# Altium integrated library Micron Memory Parallel NOR Flash.IntLib: 720 symbols (part 202 of 216)
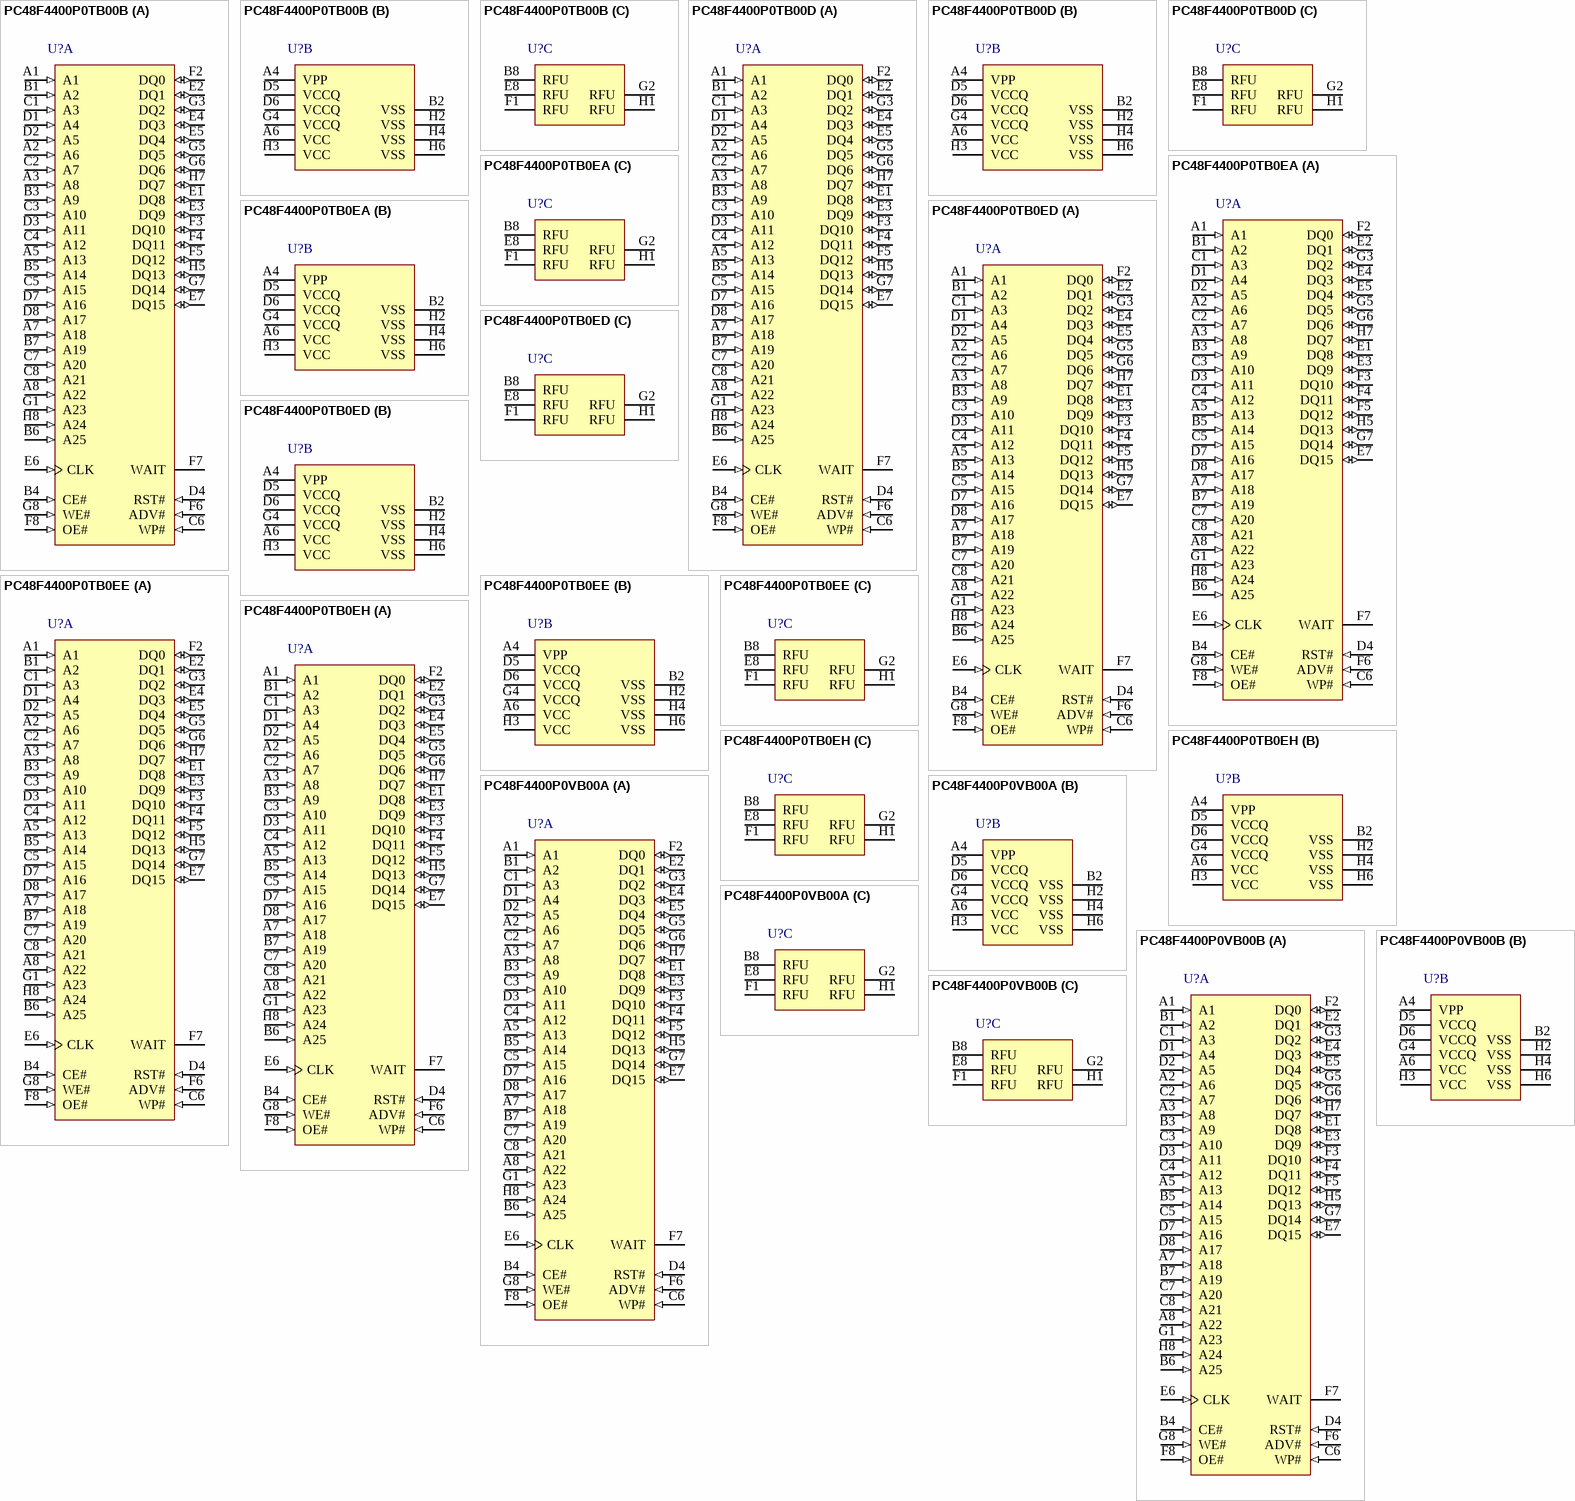
[diagram p232: symbols PC48F4400P0TB00B to PC48F4400P0VB00B]

## PC48F4400P0VB00B
designator U?
512 Mb (x16) Parallel NOR Flash Memory, 85 ns, 1.7 to 2.0 V, 64-ball Easy BGA (PC), Tape & Reel; Part Family: P30; Manufacturer: Micron; PartNumber: PC48F4400P0VB00B; Density: 512Mb; Op Temp: -40C to +85C; Speed: 85ns; Voltage: 1.7V-2.0V; DatasheetVersion: Rev.12; PackageVersion: Rev. 10; PackageReference: MICT-PC-64-13000X10000X1200DEA; PackageDescription: 64-Ball BGA, 13 x 10 mm, Pitch 1 mm; RoHS: Yes; Width: x16; Mounting Technology: Surface Mount; ComponentLink1Description: Manufacturer URL; ComponentLink1URL: http://www.micron.com/; ComponentLink2Description: Datasheet; ComponentLink2URL: http://www.micron.com/~/media/Documents/Products/Data%20Sheet/NOR%20Flash/Parallel/P33/320003_P33_65nm_MLC_256MDiscrete_512MStack_DS.pdf; ComponentLink3Description: Package Specification; ComponentLink3URL: http://www.micron.com/~/media/Documents/Products/Data%20Sheet/NOR%20Flash/Parallel/J3/316577_J3D_Monolithic_DS.pdf
footprint MICT-PC-64-13000X10000X1200DEA (BGA, 64-Balls, Body 13x10mm, Pitch 1mm)
part A pins: A1 (in) "Address Input: Device Address Input. 64-Mbit: A[22:1]; 128-Mbit: A[23:1]; 256-Mbit: A[24:1]; 512-Mbit: A[25:1]. Note: The virtual selection of the 256-Mbit "Top parameter" die in the dual-die 512-Mbit configuration is (See Datasheet)", A2 A6 (in) "Address Input: Device Address Input. 64-Mbit: A[22:1]; 128-Mbit: A[23:1]; 256-Mbit: A[24:1]; 512-Mbit: A[25:1]. Note: The virtual selection of the 256-Mbit "Top parameter" die in the dual-die 512-Mbit configuration is (See Datasheet)", A3 A8 (in) "Address Input: Device Address Input. 64-Mbit: A[22:1]; 128-Mbit: A[23:1]; 256-Mbit: A[24:1]; 512-Mbit: A[25:1]. Note: The virtual selection of the 256-Mbit "Top parameter" die in the dual-die 512-Mbit configuration is (See Datasheet)", A5 A13 (in) "Address Input: Device Address Input. 64-Mbit: A[22:1]; 128-Mbit: A[23:1]; 256-Mbit: A[24:1]; 512-Mbit: A[25:1]. Note: The virtual selection of the 256-Mbit "Top parameter" die in the dual-die 512-Mbit configuration is (See Datasheet)", A7 A18 (in) "Address Input: Device Address Input. 64-Mbit: A[22:1]; 128-Mbit: A[23:1]; 256-Mbit: A[24:1]; 512-Mbit: A[25:1]. Note: The virtual selection of the 256-Mbit "Top parameter" die in the dual-die 512-Mbit configuration is (See Datasheet)", A8 A22 (in) "Address Input: Device Address Input. 64-Mbit: A[22:1]; 128-Mbit: A[23:1]; 256-Mbit: A[24:1]; 512-Mbit: A[25:1]. Note: The virtual selection of the 256-Mbit "Top parameter" die in the dual-die 512-Mbit configuration is (See Datasheet)", B1 A2 (in) "Address Input: Device Address Input. 64-Mbit: A[22:1]; 128-Mbit: A[23:1]; 256-Mbit: A[24:1]; 512-Mbit: A[25:1]. Note: The virtual selection of the 256-Mbit "Top parameter" die in the dual-die 512-Mbit configuration is (See Datasheet)", B3 A9 (in) "Address Input: Device Address Input. 64-Mbit: A[22:1]; 128-Mbit: A[23:1]; 256-Mbit: A[24:1]; 512-Mbit: A[25:1]. Note: The virtual selection of the 256-Mbit "Top parameter" die in the dual-die 512-Mbit configuration is (See Datasheet)", B4 CE# (in) "FLASH CHIP ENABLE: Active low input. CE# low selects the associated flash memory die. When asserted, flash internal control logic, input buffers, decoders, and sense amplifiers are active. When deasserted, the associated (See Datasheet)", B5 A14 (in) "Address Input: Device Address Input. 64-Mbit: A[22:1]; 128-Mbit: A[23:1]; 256-Mbit: A[24:1]; 512-Mbit: A[25:1]. Note: The virtual selection of the 256-Mbit "Top parameter" die in the dual-die 512-Mbit configuration is (See Datasheet)", B6 A25 (in) "Address Input: Device Address Input. 64-Mbit: A[22:1]; 128-Mbit: A[23:1]; 256-Mbit: A[24:1]; 512-Mbit: A[25:1]. Note: The virtual selection of the 256-Mbit "Top parameter" die in the dual-die 512-Mbit configuration is (See Datasheet)", B7 A19 (in) "Address Input: Device Address Input. 64-Mbit: A[22:1]; 128-Mbit: A[23:1]; 256-Mbit: A[24:1]; 512-Mbit: A[25:1]. Note: The virtual selection of the 256-Mbit "Top parameter" die in the dual-die 512-Mbit configuration is (See Datasheet)", C1 A3 (in) "Address Input: Device Address Input. 64-Mbit: A[22:1]; 128-Mbit: A[23:1]; 256-Mbit: A[24:1]; 512-Mbit: A[25:1]. Note: The virtual selection of the 256-Mbit "Top parameter" die in the dual-die 512-Mbit configuration is (See Datasheet)", C2 A7 (in) "Address Input: Device Address Input. 64-Mbit: A[22:1]; 128-Mbit: A[23:1]; 256-Mbit: A[24:1]; 512-Mbit: A[25:1]. Note: The virtual selection of the 256-Mbit "Top parameter" die in the dual-die 512-Mbit configuration is (See Datasheet)", C3 A10 (in) "Address Input: Device Address Input. 64-Mbit: A[22:1]; 128-Mbit: A[23:1]; 256-Mbit: A[24:1]; 512-Mbit: A[25:1]. Note: The virtual selection of the 256-Mbit "Top parameter" die in the dual-die 512-Mbit configuration is (See Datasheet)", C4 A12 (in) "Address Input: Device Address Input. 64-Mbit: A[22:1]; 128-Mbit: A[23:1]; 256-Mbit: A[24:1]; 512-Mbit: A[25:1]. Note: The virtual selection of the 256-Mbit "Top parameter" die in the dual-die 512-Mbit configuration is (See Datasheet)", C5 A15 (in) "Address Input: Device Address Input. 64-Mbit: A[22:1]; 128-Mbit: A[23:1]; 256-Mbit: A[24:1]; 512-Mbit: A[25:1]. Note: The virtual selection of the 256-Mbit "Top parameter" die in the dual-die 512-Mbit configuration is (See Datasheet)", C6 WP# (in) "WRITE PROTECT: Active low input. WP# low enables the lock-down mechanism. Blocks in lockdown cannot be unlocked with the Unlock command. WP# high overrides the lock-down function enabling blocks to be erased or programmed (See Datasheet)", C7 A20 (in) "Address Input: Device Address Input. 64-Mbit: A[22:1]; 128-Mbit: A[23:1]; 256-Mbit: A[24:1]; 512-Mbit: A[25:1]. Note: The virtual selection of the 256-Mbit "Top parameter" die in the dual-die 512-Mbit configuration is (See Datasheet)", C8 A21 (in) "Address Input: Device Address Input. 64-Mbit: A[22:1]; 128-Mbit: A[23:1]; 256-Mbit: A[24:1]; 512-Mbit: A[25:1]. Note: The virtual selection of the 256-Mbit "Top parameter" die in the dual-die 512-Mbit configuration is (See Datasheet)", D1 A4 (in) "Address Input: Device Address Input. 64-Mbit: A[22:1]; 128-Mbit: A[23:1]; 256-Mbit: A[24:1]; 512-Mbit: A[25:1]. Note: The virtual selection of the 256-Mbit "Top parameter" die in the dual-die 512-Mbit configuration is (See Datasheet)", D2 A5 (in) "Address Input: Device Address Input. 64-Mbit: A[22:1]; 128-Mbit: A[23:1]; 256-Mbit: A[24:1]; 512-Mbit: A[25:1]. Note: The virtual selection of the 256-Mbit "Top parameter" die in the dual-die 512-Mbit configuration is (See Datasheet)", D3 A11 (in) "Address Input: Device Address Input. 64-Mbit: A[22:1]; 128-Mbit: A[23:1]; 256-Mbit: A[24:1]; 512-Mbit: A[25:1]. Note: The virtual selection of the 256-Mbit "Top parameter" die in the dual-die 512-Mbit configuration is (See Datasheet)", D4 RST# (in) "RESET: Active low input. RST# resets internal automation and inhibits write operations. This provides data protection during power transitions. RST# high enables normal operation. Exit from reset places the device in (See Datasheet)", D7 A16 (in) "Address Input: Device Address Input. 64-Mbit: A[22:1]; 128-Mbit: A[23:1]; 256-Mbit: A[24:1]; 512-Mbit: A[25:1]. Note: The virtual selection of the 256-Mbit "Top parameter" die in the dual-die 512-Mbit configuration is (See Datasheet)", D8 A17 (in) "Address Input: Device Address Input. 64-Mbit: A[22:1]; 128-Mbit: A[23:1]; 256-Mbit: A[24:1]; 512-Mbit: A[25:1]. Note: The virtual selection of the 256-Mbit "Top parameter" die in the dual-die 512-Mbit configuration is (See Datasheet)", E1 DQ8 (io) "DATA INPUT/Output: Input data and commands during write cycles; Output data during memory, Status Register, Protection Register, and Read Configuration Register reads. Data balls float when the CE# or OE# are deasserted. (See Datasheet)", E2 DQ1 (io) "DATA INPUT/Output: Input data and commands during write cycles; Output data during memory, Status Register, Protection Register, and Read Configuration Register reads. Data balls float when the CE# or OE# are deasserted. (See Datasheet)", E3 DQ9 (io) "DATA INPUT/Output: Input data and commands during write cycles; Output data during memory, Status Register, Protection Register, and Read Configuration Register reads. Data balls float when the CE# or OE# are deasserted. (See Datasheet)", E4 DQ3 (io) "DATA INPUT/Output: Input data and commands during write cycles; Output data during memory, Status Register, Protection Register, and Read Configuration Register reads. Data balls float when the CE# or OE# are deasserted. (See Datasheet)", E5 DQ4 (io) "DATA INPUT/Output: Input data and commands during write cycles; Output data during memory, Status Register, Protection Register, and Read Configuration Register reads. Data balls float when the CE# or OE# are deasserted. (See Datasheet)", E6 CLK (in) "CLOCK: Synchronizes the device with the system’s bus frequency in synchronous-read mode. During synchronous read operations, addresses are latched on the rising edge of ADV#, or on the next valid CLK edge with ADV# low, (See Datasheet)", E7 DQ15 (io) "DATA INPUT/Output: Input data and commands during write cycles; Output data during memory, Status Register, Protection Register, and Read Configuration Register reads. Data balls float when the CE# or OE# are deasserted. (See Datasheet)", F2 DQ0 (io) "DATA INPUT/Output: Input data and commands during write cycles; Output data during memory, Status Register, Protection Register, and Read Configuration Register reads. Data balls float when the CE# or OE# are deasserted. (See Datasheet)", F3 DQ10 (io) "DATA INPUT/Output: Input data and commands during write cycles; Output data during memory, Status Register, Protection Register, and Read Configuration Register reads. Data balls float when the CE# or OE# are deasserted. (See Datasheet)", F4 DQ11 (io) "DATA INPUT/Output: Input data and commands during write cycles; Output data during memory, Status Register, Protection Register, and Read Configuration Register reads. Data balls float when the CE# or OE# are deasserted. (See Datasheet)", F5 DQ12 (io) "DATA INPUT/Output: Input data and commands during write cycles; Output data during memory, Status Register, Protection Register, and Read Configuration Register reads. Data balls float when the CE# or OE# are deasserted. (See Datasheet)", F6 ADV# (in) "ADDRESS VALID: Active low input. During synchronous read operations, addresses are latched on the rising edge of ADV#, or on the next valid CLK edge with ADV# low, whichever occurs first. In asynchronous mode, the address is (See Datasheet)", F7 WAIT (hiz) "WAIT: Indicates data valid in synchronous array or non-array burst reads. Read Configuration Register bit 10 (RCR[10], WT) determines its polarity when asserted. WAIT’s active output is VOL or VOH when CE# and OE# are VIL. (See Datasheet)", F8 OE# (in) "OUTPUT ENABLE: Active low input. OE# low enables the device’s output data buffers during read cycles. OE# high places the data outputs and WAIT in High-Z.", G1 A23 (in) "Address Input: Device Address Input. 64-Mbit: A[22:1]; 128-Mbit: A[23:1]; 256-Mbit: A[24:1]; 512-Mbit: A[25:1]. Note: The virtual selection of the 256-Mbit "Top parameter" die in the dual-die 512-Mbit configuration is (See Datasheet)", G3 DQ2 (io) "DATA INPUT/Output: Input data and commands during write cycles; Output data during memory, Status Register, Protection Register, and Read Configuration Register reads. Data balls float when the CE# or OE# are deasserted. (See Datasheet)", G5 DQ5 (io) "DATA INPUT/Output: Input data and commands during write cycles; Output data during memory, Status Register, Protection Register, and Read Configuration Register reads. Data balls float when the CE# or OE# are deasserted. (See Datasheet)", G6 DQ6 (io) "DATA INPUT/Output: Input data and commands during write cycles; Output data during memory, Status Register, Protection Register, and Read Configuration Register reads. Data balls float when the CE# or OE# are deasserted. (See Datasheet)", G7 DQ14 (io) "DATA INPUT/Output: Input data and commands during write cycles; Output data during memory, Status Register, Protection Register, and Read Configuration Register reads. Data balls float when the CE# or OE# are deasserted. (See Datasheet)", G8 WE# (in) "WRITE ENABLE: Active low input. WE# controls writes to the device. Address and data are latched on the rising edge of WE#.", H5 DQ13 (io) "DATA INPUT/Output: Input data and commands during write cycles; Output data during memory, Status Register, Protection Register, and Read Configuration Register reads. Data balls float when the CE# or OE# are deasserted. (See Datasheet)", H7 DQ7 (io) "DATA INPUT/Output: Input data and commands during write cycles; Output data during memory, Status Register, Protection Register, and Read Configuration Register reads. Data balls float when the CE# or OE# are deasserted. (See Datasheet)", H8 A24 (in) "Address Input: Device Address Input. 64-Mbit: A[22:1]; 128-Mbit: A[23:1]; 256-Mbit: A[24:1]; 512-Mbit: A[25:1]. Note: The virtual selection of the 256-Mbit "Top parameter" die in the dual-die 512-Mbit configuration is (See Datasheet)"
part B pins: A4 VPP (power) "Erase and Program Power: A valid voltage on this pin allows erasing or programming. Memory contents cannot be altered when VPP =< VPPLK. Block erase and program at invalid VPP voltages should not be attempted. Set VPP = VPPL (See Datasheet)", A6 VCC (power) "Device Core Power Supply: Core (logic) source voltage. Writes to the flash array are inhibited when VCC =< VLKO. Operations at invalid VCC voltages should not be attempted.", B2 VSS (power) "Ground: Connect to system ground. Do not float any VSS connection.", D5 VCCQ (power) "Output Power Supply: Output-driver source voltage.", D6 VCCQ (power) "Output Power Supply: Output-driver source voltage.", G4 VCCQ (power) "Output Power Supply: Output-driver source voltage.", H2 VSS (power) "Ground: Connect to system ground. Do not float any VSS connection.", H3 VCC (power) "Device Core Power Supply: Core (logic) source voltage. Writes to the flash array are inhibited when VCC =< VLKO. Operations at invalid VCC voltages should not be attempted.", H4 VSS (power) "Ground: Connect to system ground. Do not float any VSS connection.", H6 VSS (power) "Ground: Connect to system ground. Do not float any VSS connection."
part C pins: B8 RFU "Reserved for Future Use: Reserved by Numonyx for future device functionality and enhancement. These should be treated in the same way as a Do Not Use (DU) signal.", E8 RFU "Reserved for Future Use: Reserved by Numonyx for future device functionality and enhancement. These should be treated in the same way as a Do Not Use (DU) signal.", F1 RFU "Reserved for Future Use: Reserved by Numonyx for future device functionality and enhancement. These should be treated in the same way as a Do Not Use (DU) signal.", G2 RFU "Reserved for Future Use: Reserved by Numonyx for future device functionality and enhancement. These should be treated in the same way as a Do Not Use (DU) signal.", H1 RFU "Reserved for Future Use: Reserved by Numonyx for future device functionality and enhancement. These should be treated in the same way as a Do Not Use (DU) signal."

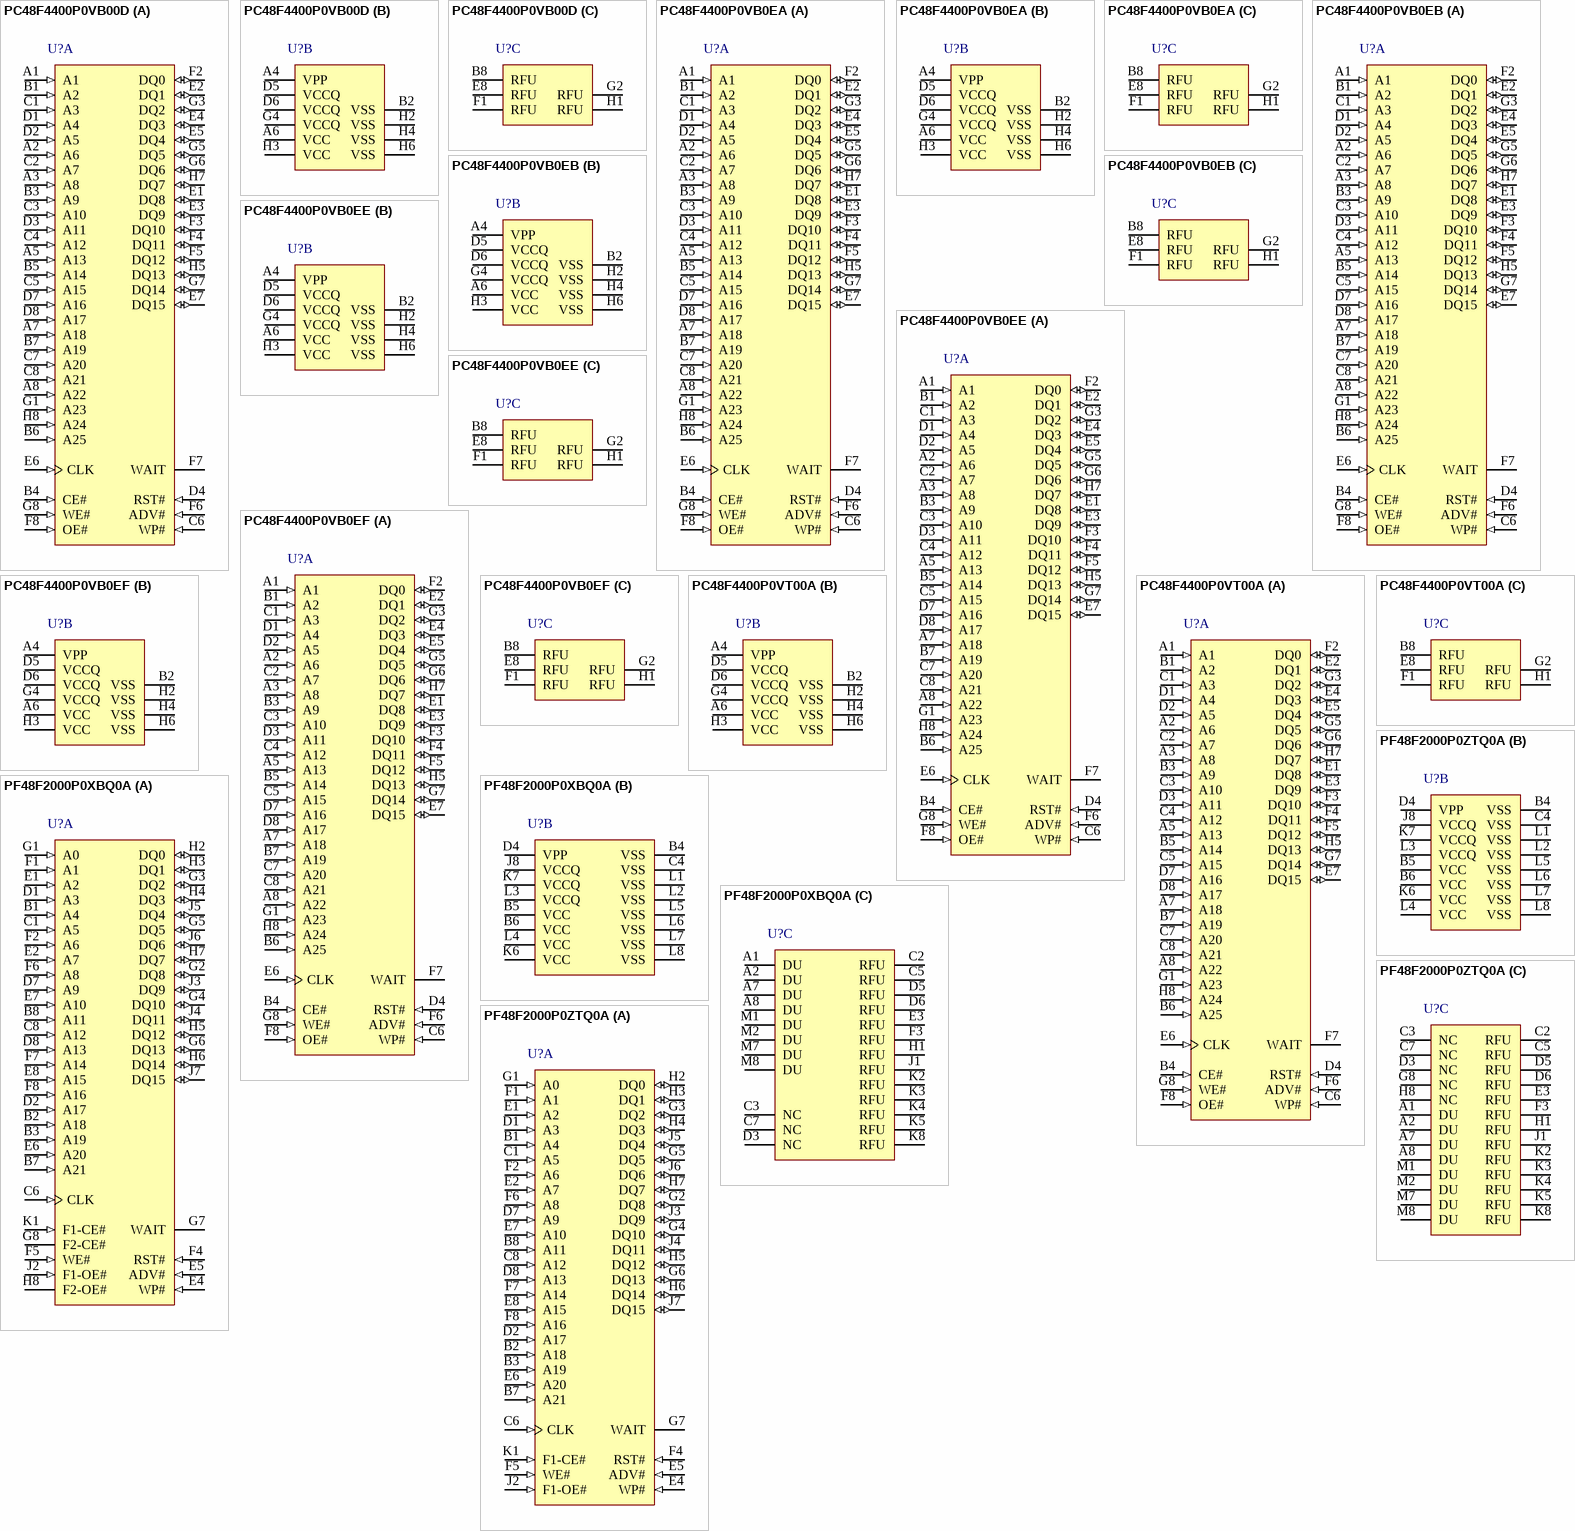
[diagram p57: symbols PC48F4400P0VB00D to PF48F2000P0ZTQ0A]

## PC48F4400P0VB00D
designator U?
512 Mb (x16) Parallel NOR Flash Memory, 85 ns, 1.7 to 2.0 V, 64-ball Easy BGA (PC), Tray; Part Family: P30; Manufacturer: Micron; PartNumber: PC48F4400P0VB00D; Density: 512Mb; Op Temp: -40C to +85C; Speed: 85ns; Voltage: 1.7V-2.0V; DatasheetVersion: Rev.12; PackageVersion: Rev. 10; PackageReference: MICT-PC-64-13000X10000X1200DEA; PackageDescription: 64-Ball BGA, 13 x 10 mm, Pitch 1 mm; RoHS: Yes; Width: x16; Mounting Technology: Surface Mount; ComponentLink1Description: Manufacturer URL; ComponentLink1URL: http://www.micron.com/; ComponentLink2Description: Datasheet; ComponentLink2URL: http://www.micron.com/~/media/Documents/Products/Data%20Sheet/NOR%20Flash/Parallel/P33/320003_P33_65nm_MLC_256MDiscrete_512MStack_DS.pdf; ComponentLink3Description: Package Specification; ComponentLink3URL: http://www.micron.com/~/media/Documents/Products/Data%20Sheet/NOR%20Flash/Parallel/J3/316577_J3D_Monolithic_DS.pdf
footprint MICT-PC-64-13000X10000X1200DEA (BGA, 64-Balls, Body 13x10mm, Pitch 1mm)
part A pins: A1 (in) "Address Input: Device Address Input. 64-Mbit: A[22:1]; 128-Mbit: A[23:1]; 256-Mbit: A[24:1]; 512-Mbit: A[25:1]. Note: The virtual selection of the 256-Mbit "Top parameter" die in the dual-die 512-Mbit configuration is (See Datasheet)", A2 A6 (in) "Address Input: Device Address Input. 64-Mbit: A[22:1]; 128-Mbit: A[23:1]; 256-Mbit: A[24:1]; 512-Mbit: A[25:1]. Note: The virtual selection of the 256-Mbit "Top parameter" die in the dual-die 512-Mbit configuration is (See Datasheet)", A3 A8 (in) "Address Input: Device Address Input. 64-Mbit: A[22:1]; 128-Mbit: A[23:1]; 256-Mbit: A[24:1]; 512-Mbit: A[25:1]. Note: The virtual selection of the 256-Mbit "Top parameter" die in the dual-die 512-Mbit configuration is (See Datasheet)", A5 A13 (in) "Address Input: Device Address Input. 64-Mbit: A[22:1]; 128-Mbit: A[23:1]; 256-Mbit: A[24:1]; 512-Mbit: A[25:1]. Note: The virtual selection of the 256-Mbit "Top parameter" die in the dual-die 512-Mbit configuration is (See Datasheet)", A7 A18 (in) "Address Input: Device Address Input. 64-Mbit: A[22:1]; 128-Mbit: A[23:1]; 256-Mbit: A[24:1]; 512-Mbit: A[25:1]. Note: The virtual selection of the 256-Mbit "Top parameter" die in the dual-die 512-Mbit configuration is (See Datasheet)", A8 A22 (in) "Address Input: Device Address Input. 64-Mbit: A[22:1]; 128-Mbit: A[23:1]; 256-Mbit: A[24:1]; 512-Mbit: A[25:1]. Note: The virtual selection of the 256-Mbit "Top parameter" die in the dual-die 512-Mbit configuration is (See Datasheet)", B1 A2 (in) "Address Input: Device Address Input. 64-Mbit: A[22:1]; 128-Mbit: A[23:1]; 256-Mbit: A[24:1]; 512-Mbit: A[25:1]. Note: The virtual selection of the 256-Mbit "Top parameter" die in the dual-die 512-Mbit configuration is (See Datasheet)", B3 A9 (in) "Address Input: Device Address Input. 64-Mbit: A[22:1]; 128-Mbit: A[23:1]; 256-Mbit: A[24:1]; 512-Mbit: A[25:1]. Note: The virtual selection of the 256-Mbit "Top parameter" die in the dual-die 512-Mbit configuration is (See Datasheet)", B4 CE# (in) "FLASH CHIP ENABLE: Active low input. CE# low selects the associated flash memory die. When asserted, flash internal control logic, input buffers, decoders, and sense amplifiers are active. When deasserted, the associated (See Datasheet)", B5 A14 (in) "Address Input: Device Address Input. 64-Mbit: A[22:1]; 128-Mbit: A[23:1]; 256-Mbit: A[24:1]; 512-Mbit: A[25:1]. Note: The virtual selection of the 256-Mbit "Top parameter" die in the dual-die 512-Mbit configuration is (See Datasheet)", B6 A25 (in) "Address Input: Device Address Input. 64-Mbit: A[22:1]; 128-Mbit: A[23:1]; 256-Mbit: A[24:1]; 512-Mbit: A[25:1]. Note: The virtual selection of the 256-Mbit "Top parameter" die in the dual-die 512-Mbit configuration is (See Datasheet)", B7 A19 (in) "Address Input: Device Address Input. 64-Mbit: A[22:1]; 128-Mbit: A[23:1]; 256-Mbit: A[24:1]; 512-Mbit: A[25:1]. Note: The virtual selection of the 256-Mbit "Top parameter" die in the dual-die 512-Mbit configuration is (See Datasheet)", C1 A3 (in) "Address Input: Device Address Input. 64-Mbit: A[22:1]; 128-Mbit: A[23:1]; 256-Mbit: A[24:1]; 512-Mbit: A[25:1]. Note: The virtual selection of the 256-Mbit "Top parameter" die in the dual-die 512-Mbit configuration is (See Datasheet)", C2 A7 (in) "Address Input: Device Address Input. 64-Mbit: A[22:1]; 128-Mbit: A[23:1]; 256-Mbit: A[24:1]; 512-Mbit: A[25:1]. Note: The virtual selection of the 256-Mbit "Top parameter" die in the dual-die 512-Mbit configuration is (See Datasheet)", C3 A10 (in) "Address Input: Device Address Input. 64-Mbit: A[22:1]; 128-Mbit: A[23:1]; 256-Mbit: A[24:1]; 512-Mbit: A[25:1]. Note: The virtual selection of the 256-Mbit "Top parameter" die in the dual-die 512-Mbit configuration is (See Datasheet)", C4 A12 (in) "Address Input: Device Address Input. 64-Mbit: A[22:1]; 128-Mbit: A[23:1]; 256-Mbit: A[24:1]; 512-Mbit: A[25:1]. Note: The virtual selection of the 256-Mbit "Top parameter" die in the dual-die 512-Mbit configuration is (See Datasheet)", C5 A15 (in) "Address Input: Device Address Input. 64-Mbit: A[22:1]; 128-Mbit: A[23:1]; 256-Mbit: A[24:1]; 512-Mbit: A[25:1]. Note: The virtual selection of the 256-Mbit "Top parameter" die in the dual-die 512-Mbit configuration is (See Datasheet)", C6 WP# (in) "WRITE PROTECT: Active low input. WP# low enables the lock-down mechanism. Blocks in lockdown cannot be unlocked with the Unlock command. WP# high overrides the lock-down function enabling blocks to be erased or programmed (See Datasheet)", C7 A20 (in) "Address Input: Device Address Input. 64-Mbit: A[22:1]; 128-Mbit: A[23:1]; 256-Mbit: A[24:1]; 512-Mbit: A[25:1]. Note: The virtual selection of the 256-Mbit "Top parameter" die in the dual-die 512-Mbit configuration is (See Datasheet)", C8 A21 (in) "Address Input: Device Address Input. 64-Mbit: A[22:1]; 128-Mbit: A[23:1]; 256-Mbit: A[24:1]; 512-Mbit: A[25:1]. Note: The virtual selection of the 256-Mbit "Top parameter" die in the dual-die 512-Mbit configuration is (See Datasheet)", D1 A4 (in) "Address Input: Device Address Input. 64-Mbit: A[22:1]; 128-Mbit: A[23:1]; 256-Mbit: A[24:1]; 512-Mbit: A[25:1]. Note: The virtual selection of the 256-Mbit "Top parameter" die in the dual-die 512-Mbit configuration is (See Datasheet)", D2 A5 (in) "Address Input: Device Address Input. 64-Mbit: A[22:1]; 128-Mbit: A[23:1]; 256-Mbit: A[24:1]; 512-Mbit: A[25:1]. Note: The virtual selection of the 256-Mbit "Top parameter" die in the dual-die 512-Mbit configuration is (See Datasheet)", D3 A11 (in) "Address Input: Device Address Input. 64-Mbit: A[22:1]; 128-Mbit: A[23:1]; 256-Mbit: A[24:1]; 512-Mbit: A[25:1]. Note: The virtual selection of the 256-Mbit "Top parameter" die in the dual-die 512-Mbit configuration is (See Datasheet)", D4 RST# (in) "RESET: Active low input. RST# resets internal automation and inhibits write operations. This provides data protection during power transitions. RST# high enables normal operation. Exit from reset places the device in (See Datasheet)", D7 A16 (in) "Address Input: Device Address Input. 64-Mbit: A[22:1]; 128-Mbit: A[23:1]; 256-Mbit: A[24:1]; 512-Mbit: A[25:1]. Note: The virtual selection of the 256-Mbit "Top parameter" die in the dual-die 512-Mbit configuration is (See Datasheet)", D8 A17 (in) "Address Input: Device Address Input. 64-Mbit: A[22:1]; 128-Mbit: A[23:1]; 256-Mbit: A[24:1]; 512-Mbit: A[25:1]. Note: The virtual selection of the 256-Mbit "Top parameter" die in the dual-die 512-Mbit configuration is (See Datasheet)", E1 DQ8 (io) "DATA INPUT/Output: Input data and commands during write cycles; Output data during memory, Status Register, Protection Register, and Read Configuration Register reads. Data balls float when the CE# or OE# are deasserted. (See Datasheet)", E2 DQ1 (io) "DATA INPUT/Output: Input data and commands during write cycles; Output data during memory, Status Register, Protection Register, and Read Configuration Register reads. Data balls float when the CE# or OE# are deasserted. (See Datasheet)", E3 DQ9 (io) "DATA INPUT/Output: Input data and commands during write cycles; Output data during memory, Status Register, Protection Register, and Read Configuration Register reads. Data balls float when the CE# or OE# are deasserted. (See Datasheet)", E4 DQ3 (io) "DATA INPUT/Output: Input data and commands during write cycles; Output data during memory, Status Register, Protection Register, and Read Configuration Register reads. Data balls float when the CE# or OE# are deasserted. (See Datasheet)", E5 DQ4 (io) "DATA INPUT/Output: Input data and commands during write cycles; Output data during memory, Status Register, Protection Register, and Read Configuration Register reads. Data balls float when the CE# or OE# are deasserted. (See Datasheet)", E6 CLK (in) "CLOCK: Synchronizes the device with the system’s bus frequency in synchronous-read mode. During synchronous read operations, addresses are latched on the rising edge of ADV#, or on the next valid CLK edge with ADV# low, (See Datasheet)", E7 DQ15 (io) "DATA INPUT/Output: Input data and commands during write cycles; Output data during memory, Status Register, Protection Register, and Read Configuration Register reads. Data balls float when the CE# or OE# are deasserted. (See Datasheet)", F2 DQ0 (io) "DATA INPUT/Output: Input data and commands during write cycles; Output data during memory, Status Register, Protection Register, and Read Configuration Register reads. Data balls float when the CE# or OE# are deasserted. (See Datasheet)", F3 DQ10 (io) "DATA INPUT/Output: Input data and commands during write cycles; Output data during memory, Status Register, Protection Register, and Read Configuration Register reads. Data balls float when the CE# or OE# are deasserted. (See Datasheet)", F4 DQ11 (io) "DATA INPUT/Output: Input data and commands during write cycles; Output data during memory, Status Register, Protection Register, and Read Configuration Register reads. Data balls float when the CE# or OE# are deasserted. (See Datasheet)", F5 DQ12 (io) "DATA INPUT/Output: Input data and commands during write cycles; Output data during memory, Status Register, Protection Register, and Read Configuration Register reads. Data balls float when the CE# or OE# are deasserted. (See Datasheet)", F6 ADV# (in) "ADDRESS VALID: Active low input. During synchronous read operations, addresses are latched on the rising edge of ADV#, or on the next valid CLK edge with ADV# low, whichever occurs first. In asynchronous mode, the address is (See Datasheet)", F7 WAIT (hiz) "WAIT: Indicates data valid in synchronous array or non-array burst reads. Read Configuration Register bit 10 (RCR[10], WT) determines its polarity when asserted. WAIT’s active output is VOL or VOH when CE# and OE# are VIL. (See Datasheet)", F8 OE# (in) "OUTPUT ENABLE: Active low input. OE# low enables the device’s output data buffers during read cycles. OE# high places the data outputs and WAIT in High-Z.", G1 A23 (in) "Address Input: Device Address Input. 64-Mbit: A[22:1]; 128-Mbit: A[23:1]; 256-Mbit: A[24:1]; 512-Mbit: A[25:1]. Note: The virtual selection of the 256-Mbit "Top parameter" die in the dual-die 512-Mbit configuration is (See Datasheet)", G3 DQ2 (io) "DATA INPUT/Output: Input data and commands during write cycles; Output data during memory, Status Register, Protection Register, and Read Configuration Register reads. Data balls float when the CE# or OE# are deasserted. (See Datasheet)", G5 DQ5 (io) "DATA INPUT/Output: Input data and commands during write cycles; Output data during memory, Status Register, Protection Register, and Read Configuration Register reads. Data balls float when the CE# or OE# are deasserted. (See Datasheet)", G6 DQ6 (io) "DATA INPUT/Output: Input data and commands during write cycles; Output data during memory, Status Register, Protection Register, and Read Configuration Register reads. Data balls float when the CE# or OE# are deasserted. (See Datasheet)", G7 DQ14 (io) "DATA INPUT/Output: Input data and commands during write cycles; Output data during memory, Status Register, Protection Register, and Read Configuration Register reads. Data balls float when the CE# or OE# are deasserted. (See Datasheet)", G8 WE# (in) "WRITE ENABLE: Active low input. WE# controls writes to the device. Address and data are latched on the rising edge of WE#.", H5 DQ13 (io) "DATA INPUT/Output: Input data and commands during write cycles; Output data during memory, Status Register, Protection Register, and Read Configuration Register reads. Data balls float when the CE# or OE# are deasserted. (See Datasheet)", H7 DQ7 (io) "DATA INPUT/Output: Input data and commands during write cycles; Output data during memory, Status Register, Protection Register, and Read Configuration Register reads. Data balls float when the CE# or OE# are deasserted. (See Datasheet)", H8 A24 (in) "Address Input: Device Address Input. 64-Mbit: A[22:1]; 128-Mbit: A[23:1]; 256-Mbit: A[24:1]; 512-Mbit: A[25:1]. Note: The virtual selection of the 256-Mbit "Top parameter" die in the dual-die 512-Mbit configuration is (See Datasheet)"
part B pins: A4 VPP (power) "Erase and Program Power: A valid voltage on this pin allows erasing or programming. Memory contents cannot be altered when VPP =< VPPLK. Block erase and program at invalid VPP voltages should not be attempted. Set VPP = VPPL (See Datasheet)", A6 VCC (power) "Device Core Power Supply: Core (logic) source voltage. Writes to the flash array are inhibited when VCC =< VLKO. Operations at invalid VCC voltages should not be attempted.", B2 VSS (power) "Ground: Connect to system ground. Do not float any VSS connection.", D5 VCCQ (power) "Output Power Supply: Output-driver source voltage.", D6 VCCQ (power) "Output Power Supply: Output-driver source voltage.", G4 VCCQ (power) "Output Power Supply: Output-driver source voltage.", H2 VSS (power) "Ground: Connect to system ground. Do not float any VSS connection.", H3 VCC (power) "Device Core Power Supply: Core (logic) source voltage. Writes to the flash array are inhibited when VCC =< VLKO. Operations at invalid VCC voltages should not be attempted.", H4 VSS (power) "Ground: Connect to system ground. Do not float any VSS connection.", H6 VSS (power) "Ground: Connect to system ground. Do not float any VSS connection."
part C pins: B8 RFU "Reserved for Future Use: Reserved by Numonyx for future device functionality and enhancement. These should be treated in the same way as a Do Not Use (DU) signal.", E8 RFU "Reserved for Future Use: Reserved by Numonyx for future device functionality and enhancement. These should be treated in the same way as a Do Not Use (DU) signal.", F1 RFU "Reserved for Future Use: Reserved by Numonyx for future device functionality and enhancement. These should be treated in the same way as a Do Not Use (DU) signal.", G2 RFU "Reserved for Future Use: Reserved by Numonyx for future device functionality and enhancement. These should be treated in the same way as a Do Not Use (DU) signal.", H1 RFU "Reserved for Future Use: Reserved by Numonyx for future device functionality and enhancement. These should be treated in the same way as a Do Not Use (DU) signal."

## PC48F4400P0VB0EA
designator U?
512 Mb (x16) Parallel NOR Flash Memory, 100 ns, 1.7 to 2.0 V, 64-ball Easy BGA (PC), Tray; Part Family: P30; Manufacturer: Micron; PartNumber: PC48F4400P0VB0EA; Density: 512Mb; Op Temp: -40C to +85C; Speed: 100ns; Voltage: 1.7V-2.0V; DatasheetVersion: Rev. 11; PackageVersion: Rev. 10; PackageReference: MICT-PC-64-13000X10000X1200DEA; PackageDescription: 64-Ball BGA, 13 x 10 mm, Pitch 1 mm; RoHS: Yes; Width: x16; Mounting Technology: Surface Mount; ComponentLink1Description: Manufacturer URL; ComponentLink1URL: http://www.micron.com/; ComponentLink2Description: Datasheet; ComponentLink2URL: http://www.micron.com/~/media/Documents/Products/Data%20Sheet/NOR%20Flash/Parallel/P30/320002_P30_65nm_MLC_256MDiscrete_512MStack_DS.pdf; ComponentLink3Description: Package Specification; ComponentLink3URL: http://www.micron.com/~/media/Documents/Products/Data%20Sheet/NOR%20Flash/Parallel/J3/316577_J3D_Monolithic_DS.pdf
footprint MICT-PC-64-13000X10000X1200DEA (BGA, 64-Balls, Body 13x10mm, Pitch 1mm)
part A pins: A1 (in) "Address Input: Device Address Input. 64-Mbit: A[22:1]; 128-Mbit: A[23:1]; 256-Mbit: A[24:1]; 512-Mbit: A[25:1]. Note: The virtual selection of the 256-Mbit "Top parameter" die in the dual-die 512-Mbit configuration is (See Datasheet)", A2 A6 (in) "Address Input: Device Address Input. 64-Mbit: A[22:1]; 128-Mbit: A[23:1]; 256-Mbit: A[24:1]; 512-Mbit: A[25:1]. Note: The virtual selection of the 256-Mbit "Top parameter" die in the dual-die 512-Mbit configuration is (See Datasheet)", A3 A8 (in) "Address Input: Device Address Input. 64-Mbit: A[22:1]; 128-Mbit: A[23:1]; 256-Mbit: A[24:1]; 512-Mbit: A[25:1]. Note: The virtual selection of the 256-Mbit "Top parameter" die in the dual-die 512-Mbit configuration is (See Datasheet)", A5 A13 (in) "Address Input: Device Address Input. 64-Mbit: A[22:1]; 128-Mbit: A[23:1]; 256-Mbit: A[24:1]; 512-Mbit: A[25:1]. Note: The virtual selection of the 256-Mbit "Top parameter" die in the dual-die 512-Mbit configuration is (See Datasheet)", A7 A18 (in) "Address Input: Device Address Input. 64-Mbit: A[22:1]; 128-Mbit: A[23:1]; 256-Mbit: A[24:1]; 512-Mbit: A[25:1]. Note: The virtual selection of the 256-Mbit "Top parameter" die in the dual-die 512-Mbit configuration is (See Datasheet)", A8 A22 (in) "Address Input: Device Address Input. 64-Mbit: A[22:1]; 128-Mbit: A[23:1]; 256-Mbit: A[24:1]; 512-Mbit: A[25:1]. Note: The virtual selection of the 256-Mbit "Top parameter" die in the dual-die 512-Mbit configuration is (See Datasheet)", B1 A2 (in) "Address Input: Device Address Input. 64-Mbit: A[22:1]; 128-Mbit: A[23:1]; 256-Mbit: A[24:1]; 512-Mbit: A[25:1]. Note: The virtual selection of the 256-Mbit "Top parameter" die in the dual-die 512-Mbit configuration is (See Datasheet)", B3 A9 (in) "Address Input: Device Address Input. 64-Mbit: A[22:1]; 128-Mbit: A[23:1]; 256-Mbit: A[24:1]; 512-Mbit: A[25:1]. Note: The virtual selection of the 256-Mbit "Top parameter" die in the dual-die 512-Mbit configuration is (See Datasheet)", B4 CE# (in) "FLASH CHIP ENABLE: Active low input. CE# low selects the associated flash memory die. When asserted, flash internal control logic, input buffers, decoders, and sense amplifiers are active. When deasserted, the associated (See Datasheet)", B5 A14 (in) "Address Input: Device Address Input. 64-Mbit: A[22:1]; 128-Mbit: A[23:1]; 256-Mbit: A[24:1]; 512-Mbit: A[25:1]. Note: The virtual selection of the 256-Mbit "Top parameter" die in the dual-die 512-Mbit configuration is (See Datasheet)", B6 A25 (in) "Address Input: Device Address Input. 64-Mbit: A[22:1]; 128-Mbit: A[23:1]; 256-Mbit: A[24:1]; 512-Mbit: A[25:1]. Note: The virtual selection of the 256-Mbit "Top parameter" die in the dual-die 512-Mbit configuration is (See Datasheet)", B7 A19 (in) "Address Input: Device Address Input. 64-Mbit: A[22:1]; 128-Mbit: A[23:1]; 256-Mbit: A[24:1]; 512-Mbit: A[25:1]. Note: The virtual selection of the 256-Mbit "Top parameter" die in the dual-die 512-Mbit configuration is (See Datasheet)", C1 A3 (in) "Address Input: Device Address Input. 64-Mbit: A[22:1]; 128-Mbit: A[23:1]; 256-Mbit: A[24:1]; 512-Mbit: A[25:1]. Note: The virtual selection of the 256-Mbit "Top parameter" die in the dual-die 512-Mbit configuration is (See Datasheet)", C2 A7 (in) "Address Input: Device Address Input. 64-Mbit: A[22:1]; 128-Mbit: A[23:1]; 256-Mbit: A[24:1]; 512-Mbit: A[25:1]. Note: The virtual selection of the 256-Mbit "Top parameter" die in the dual-die 512-Mbit configuration is (See Datasheet)", C3 A10 (in) "Address Input: Device Address Input. 64-Mbit: A[22:1]; 128-Mbit: A[23:1]; 256-Mbit: A[24:1]; 512-Mbit: A[25:1]. Note: The virtual selection of the 256-Mbit "Top parameter" die in the dual-die 512-Mbit configuration is (See Datasheet)", C4 A12 (in) "Address Input: Device Address Input. 64-Mbit: A[22:1]; 128-Mbit: A[23:1]; 256-Mbit: A[24:1]; 512-Mbit: A[25:1]. Note: The virtual selection of the 256-Mbit "Top parameter" die in the dual-die 512-Mbit configuration is (See Datasheet)", C5 A15 (in) "Address Input: Device Address Input. 64-Mbit: A[22:1]; 128-Mbit: A[23:1]; 256-Mbit: A[24:1]; 512-Mbit: A[25:1]. Note: The virtual selection of the 256-Mbit "Top parameter" die in the dual-die 512-Mbit configuration is (See Datasheet)", C6 WP# (in) "WRITE PROTECT: Active low input. WP# low enables the lock-down mechanism. Blocks in lockdown cannot be unlocked with the Unlock command. WP# high overrides the lock-down function enabling blocks to be erased or programmed (See Datasheet)", C7 A20 (in) "Address Input: Device Address Input. 64-Mbit: A[22:1]; 128-Mbit: A[23:1]; 256-Mbit: A[24:1]; 512-Mbit: A[25:1]. Note: The virtual selection of the 256-Mbit "Top parameter" die in the dual-die 512-Mbit configuration is (See Datasheet)", C8 A21 (in) "Address Input: Device Address Input. 64-Mbit: A[22:1]; 128-Mbit: A[23:1]; 256-Mbit: A[24:1]; 512-Mbit: A[25:1]. Note: The virtual selection of the 256-Mbit "Top parameter" die in the dual-die 512-Mbit configuration is (See Datasheet)", D1 A4 (in) "Address Input: Device Address Input. 64-Mbit: A[22:1]; 128-Mbit: A[23:1]; 256-Mbit: A[24:1]; 512-Mbit: A[25:1]. Note: The virtual selection of the 256-Mbit "Top parameter" die in the dual-die 512-Mbit configuration is (See Datasheet)", D2 A5 (in) "Address Input: Device Address Input. 64-Mbit: A[22:1]; 128-Mbit: A[23:1]; 256-Mbit: A[24:1]; 512-Mbit: A[25:1]. Note: The virtual selection of the 256-Mbit "Top parameter" die in the dual-die 512-Mbit configuration is (See Datasheet)", D3 A11 (in) "Address Input: Device Address Input. 64-Mbit: A[22:1]; 128-Mbit: A[23:1]; 256-Mbit: A[24:1]; 512-Mbit: A[25:1]. Note: The virtual selection of the 256-Mbit "Top parameter" die in the dual-die 512-Mbit configuration is (See Datasheet)", D4 RST# (in) "RESET: Active low input. RST# resets internal automation and inhibits write operations. This provides data protection during power transitions. RST# high enables normal operation. Exit from reset places the device in (See Datasheet)", D7 A16 (in) "Address Input: Device Address Input. 64-Mbit: A[22:1]; 128-Mbit: A[23:1]; 256-Mbit: A[24:1]; 512-Mbit: A[25:1]. Note: The virtual selection of the 256-Mbit "Top parameter" die in the dual-die 512-Mbit configuration is (See Datasheet)", D8 A17 (in) "Address Input: Device Address Input. 64-Mbit: A[22:1]; 128-Mbit: A[23:1]; 256-Mbit: A[24:1]; 512-Mbit: A[25:1]. Note: The virtual selection of the 256-Mbit "Top parameter" die in the dual-die 512-Mbit configuration is (See Datasheet)", E1 DQ8 (io) "DATA INPUT/Output: Input data and commands during write cycles; Output data during memory, Status Register, Protection Register, and Read Configuration Register reads. Data balls float when the CE# or OE# are deasserted. (See Datasheet)", E2 DQ1 (io) "DATA INPUT/Output: Input data and commands during write cycles; Output data during memory, Status Register, Protection Register, and Read Configuration Register reads. Data balls float when the CE# or OE# are deasserted. (See Datasheet)", E3 DQ9 (io) "DATA INPUT/Output: Input data and commands during write cycles; Output data during memory, Status Register, Protection Register, and Read Configuration Register reads. Data balls float when the CE# or OE# are deasserted. (See Datasheet)", E4 DQ3 (io) "DATA INPUT/Output: Input data and commands during write cycles; Output data during memory, Status Register, Protection Register, and Read Configuration Register reads. Data balls float when the CE# or OE# are deasserted. (See Datasheet)", E5 DQ4 (io) "DATA INPUT/Output: Input data and commands during write cycles; Output data during memory, Status Register, Protection Register, and Read Configuration Register reads. Data balls float when the CE# or OE# are deasserted. (See Datasheet)", E6 CLK (in) "CLOCK: Synchronizes the device with the system’s bus frequency in synchronous-read mode. During synchronous read operations, addresses are latched on the rising edge of ADV#, or on the next valid CLK edge with ADV# low, (See Datasheet)", E7 DQ15 (io) "DATA INPUT/Output: Input data and commands during write cycles; Output data during memory, Status Register, Protection Register, and Read Configuration Register reads. Data balls float when the CE# or OE# are deasserted. (See Datasheet)", F2 DQ0 (io) "DATA INPUT/Output: Input data and commands during write cycles; Output data during memory, Status Register, Protection Register, and Read Configuration Register reads. Data balls float when the CE# or OE# are deasserted. (See Datasheet)", F3 DQ10 (io) "DATA INPUT/Output: Input data and commands during write cycles; Output data during memory, Status Register, Protection Register, and Read Configuration Register reads. Data balls float when the CE# or OE# are deasserted. (See Datasheet)", F4 DQ11 (io) "DATA INPUT/Output: Input data and commands during write cycles; Output data during memory, Status Register, Protection Register, and Read Configuration Register reads. Data balls float when the CE# or OE# are deasserted. (See Datasheet)", F5 DQ12 (io) "DATA INPUT/Output: Input data and commands during write cycles; Output data during memory, Status Register, Protection Register, and Read Configuration Register reads. Data balls float when the CE# or OE# are deasserted. (See Datasheet)", F6 ADV# (in) "ADDRESS VALID: Active low input. During synchronous read operations, addresses are latched on the rising edge of ADV#, or on the next valid CLK edge with ADV# low, whichever occurs first. In asynchronous mode, the address is (See Datasheet)", F7 WAIT (hiz) "WAIT: Indicates data valid in synchronous array or non-array burst reads. Read Configuration Register bit 10 (RCR[10], WT) determines its polarity when asserted. WAIT’s active output is VOL or VOH when CE# and OE# are VIL. (See Datasheet)", F8 OE# (in) "OUTPUT ENABLE: Active low input. OE# low enables the device’s output data buffers during read cycles. OE# high places the data outputs and WAIT in High-Z.", G1 A23 (in) "Address Input: Device Address Input. 64-Mbit: A[22:1]; 128-Mbit: A[23:1]; 256-Mbit: A[24:1]; 512-Mbit: A[25:1]. Note: The virtual selection of the 256-Mbit "Top parameter" die in the dual-die 512-Mbit configuration is (See Datasheet)", G3 DQ2 (io) "DATA INPUT/Output: Input data and commands during write cycles; Output data during memory, Status Register, Protection Register, and Read Configuration Register reads. Data balls float when the CE# or OE# are deasserted. (See Datasheet)", G5 DQ5 (io) "DATA INPUT/Output: Input data and commands during write cycles; Output data during memory, Status Register, Protection Register, and Read Configuration Register reads. Data balls float when the CE# or OE# are deasserted. (See Datasheet)", G6 DQ6 (io) "DATA INPUT/Output: Input data and commands during write cycles; Output data during memory, Status Register, Protection Register, and Read Configuration Register reads. Data balls float when the CE# or OE# are deasserted. (See Datasheet)", G7 DQ14 (io) "DATA INPUT/Output: Input data and commands during write cycles; Output data during memory, Status Register, Protection Register, and Read Configuration Register reads. Data balls float when the CE# or OE# are deasserted. (See Datasheet)", G8 WE# (in) "WRITE ENABLE: Active low input. WE# controls writes to the device. Address and data are latched on the rising edge of WE#.", H5 DQ13 (io) "DATA INPUT/Output: Input data and commands during write cycles; Output data during memory, Status Register, Protection Register, and Read Configuration Register reads. Data balls float when the CE# or OE# are deasserted. (See Datasheet)", H7 DQ7 (io) "DATA INPUT/Output: Input data and commands during write cycles; Output data during memory, Status Register, Protection Register, and Read Configuration Register reads. Data balls float when the CE# or OE# are deasserted. (See Datasheet)", H8 A24 (in) "Address Input: Device Address Input. 64-Mbit: A[22:1]; 128-Mbit: A[23:1]; 256-Mbit: A[24:1]; 512-Mbit: A[25:1]. Note: The virtual selection of the 256-Mbit "Top parameter" die in the dual-die 512-Mbit configuration is (See Datasheet)"
part B pins: A4 VPP (power) "Erase and Program Power: A valid voltage on this pin allows erasing or programming. Memory contents cannot be altered when VPP =< VPPLK. Block erase and program at invalid VPP voltages should not be attempted. Set VPP = VPPL (See Datasheet)", A6 VCC (power) "Device Core Power Supply: Core (logic) source voltage. Writes to the flash array are inhibited when VCC =< VLKO. Operations at invalid VCC voltages should not be attempted.", B2 VSS (power) "Ground: Connect to system ground. Do not float any VSS connection.", D5 VCCQ (power) "Output Power Supply: Output-driver source voltage.", D6 VCCQ (power) "Output Power Supply: Output-driver source voltage.", G4 VCCQ (power) "Output Power Supply: Output-driver source voltage.", H2 VSS (power) "Ground: Connect to system ground. Do not float any VSS connection.", H3 VCC (power) "Device Core Power Supply: Core (logic) source voltage. Writes to the flash array are inhibited when VCC =< VLKO. Operations at invalid VCC voltages should not be attempted.", H4 VSS (power) "Ground: Connect to system ground. Do not float any VSS connection.", H6 VSS (power) "Ground: Connect to system ground. Do not float any VSS connection."
part C pins: B8 RFU "Reserved for Future Use: Reserved by Numonyx for future device functionality and enhancement. These should be treated in the same way as a Do Not Use (DU) signal.", E8 RFU "Reserved for Future Use: Reserved by Numonyx for future device functionality and enhancement. These should be treated in the same way as a Do Not Use (DU) signal.", F1 RFU "Reserved for Future Use: Reserved by Numonyx for future device functionality and enhancement. These should be treated in the same way as a Do Not Use (DU) signal.", G2 RFU "Reserved for Future Use: Reserved by Numonyx for future device functionality and enhancement. These should be treated in the same way as a Do Not Use (DU) signal.", H1 RFU "Reserved for Future Use: Reserved by Numonyx for future device functionality and enhancement. These should be treated in the same way as a Do Not Use (DU) signal."